# EAGLE library part 2X3_TO_4_SERVOS (library myFab)
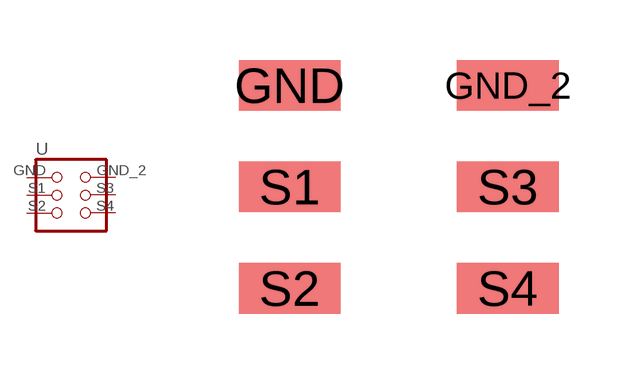
[diagram p22: symbol with the pads of 2X3_TO_4_SERVOS; footprint 2X3_TO_4_SERVOS]

Designator prefix -

## 2X3_TO_4_SERVOS  [2X3_TO_4_SERVOS]
GND  GND  pas
GND_2  GND_2  pas
S1  S1  pas
S2  S2  pas
S3  S3  pas
S4  S4  pas

## Footprint 2X3_TO_4_SERVOS (pad centres in mm)
smd 2.54 x 1.27: GND -2.731,-0.572; GND_2 2.729,-0.572; S1 -2.731,-3.111; S2 -2.731,-5.652; S3 2.729,-3.111; S4 2.729,-5.652